# Altium footprint library saw_filter_lib.PcbLib: 3 footprints
Each footprint in its own frame and in the unit in brackets; x right, y up, seen from the top. Pads: shape width x height; smd on the part's side, far side on the other; paste and mask are expansions set on the pad; w line width, h text height; cw(c..) or ccw(c..) is an arc to the next point about the centre after c.
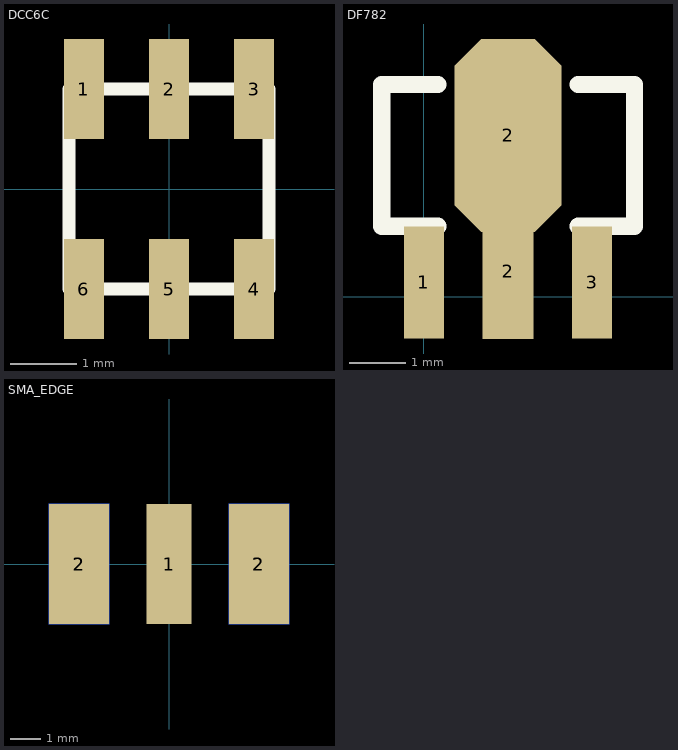
[diagram p0: the footprints below, top view; thin cyan lines are the x and y axes]

## DCC6C [mm]
height 1.1
pads (6):
  rect 0.6x1.5 smd: 1(-1.275,1.5) 2(0,1.5) 3(1.275,1.5) 4(1.275,-1.5) 5(0,-1.5) 6(-1.275,-1.5)
Top Overlay:
  lines w0.2: -1.5,-1.5 -1.5,1.5 1.5,1.5 1.5,-1.5 -1.5,-1.5
3D body: height 1.14, standoff -0.09, extent -1.5,-1.5 1.5,1.5

## DF782 [mm] "UofA Lib Pavel"
pads (4):
  rect 0.711x2 smd: 1(0,0.25) 3(2.997,0.25)
  rect 0.914x2.413 smd: 2(1.499,0.45)
  oct 1.905x3.435 smd: 2(1.5,2.867)
Top Overlay:
  lines w0.305: 0.25,1.25 -0.75,1.25 -0.75,3.775 0.25,3.775 ; 2.75,1.25 3.75,1.25 3.75,3.775 2.75,3.775
3D body: height 1.5, standoff 0, extent -0.725,0.25 3.775,4.25

## SMA_EDGE [mm]
pads (5):
  rect 1.5x4 smd: 1(0,0)
  rect 2x4 smd: 2(-3,0) 2(3,0)
  rect 2x4 smd far side: 2(-3,0) 2(3,0)
3D body: height 3.56, standoff -2.79, extent -3.175,-1.73 3.175,11.6